# Altium integrated library Фильтры.IntLib: 1 symbol
Pins are listed as number, name and electrical type; pins without a type are passive.

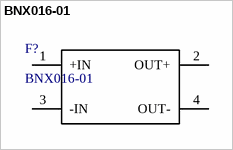
[diagram p0: symbol BNX016-01]

## BNX016-01
designator F?
chipdip: 594347972
footprint BNX016-01
pins: 1 +IN, 2 OUT+, 3 -IN, 4 OUT-